# EAGLE library part RASPBERRYPI-GPIO (library Webmaster442)
RaspberryPI GPIO Header rev. 2
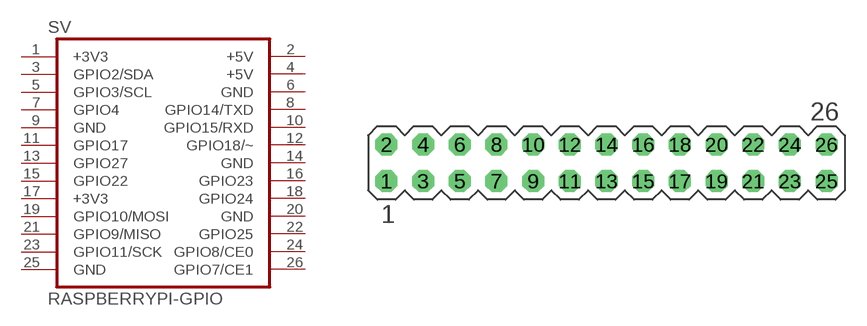
[diagram p9: symbol with the pads of MA13-2; footprint MA13-2]

Designator prefix SV

## RASPBERRYPI-GPIO (OC_FARNELL: unknown; OC_NEWARK: unknown)  [MA13-2]
1  +3V3  pas
2  +5V  pas
3  GPIO2/SDA  pas
4  +5V  pas
5  GPIO3/SCL  pas
6  GND  pas
7  GPIO4  pas
8  GPIO14/TXD  pas
9  GND  pas
10  GPIO15/RXD  pas
11  GPIO17  pas
12  GPIO18/~  pas
13  GPIO27  pas
14  GND  pas
15  GPIO22  pas
16  GPIO23  pas
17  +3V3  pas
18  GPIO24  pas
19  GPIO10/MOSI  pas
20  GND  pas
21  GPIO9/MISO  pas
22  GPIO25  pas
23  GPIO11/SCK  pas
24  GPIO8/CE0  pas
25  GND  pas
26  GPIO7/CE1  pas

## Footprint MA13-2 (pad centres in mm)
PIN HEADER
drill 1.016 octagon: 1 -15.24,-1.27; 2 -15.24,1.27; 3 -12.7,-1.27; 4 -12.7,1.27; 5 -10.16,-1.27; 6 -10.16,1.27; 7 -7.62,-1.27; 8 -7.62,1.27; 9 -5.08,-1.27; 10 -5.08,1.27; 11 -2.54,-1.27; 12 -2.54,1.27; 13 0,-1.27; 14 0,1.27; 15 2.54,-1.27; 16 2.54,1.27; 17 5.08,-1.27; 18 5.08,1.27; 19 7.62,-1.27; 20 7.62,1.27; 21 10.16,-1.27; 22 10.16,1.27; 23 12.7,-1.27; 24 12.7,1.27; 25 15.24,-1.27; 26 15.24,1.27